# EAGLE library part CONNECTOR (library OLED)
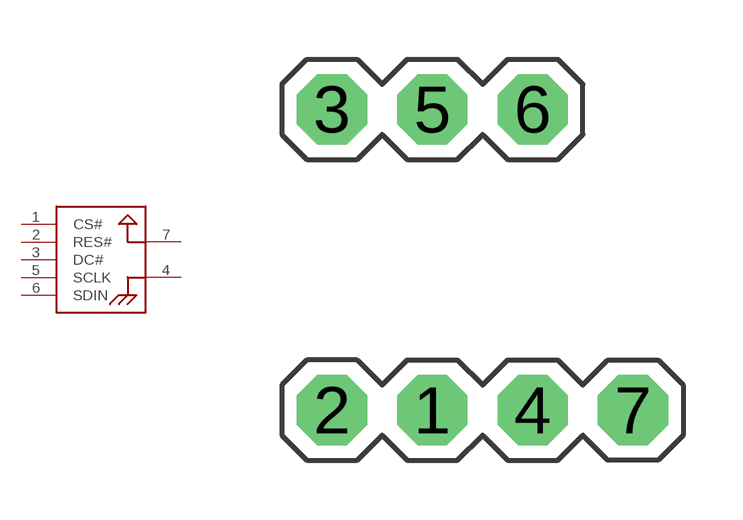
[diagram p1: symbol with the pads of CONNECTOR; footprint CONNECTOR]

Designator prefix -

## CONNECTOR  [CONNECTOR]
1  CS#
2  RES#
3  DC#
4  3.3V
5  SCLK
6  SDIN
7  GND

## Footprint CONNECTOR (pad centres in mm)
drill 0.9 pad 1.778 octagon: 1 -2.54,-3.81; 2 -5.08,-3.81; 3 -5.08,3.81; 4 0,-3.81; 5 -2.54,3.81; 6 0,3.81; 7 2.54,-3.81